# Altium footprint library USB_COM_V1.0.PcbLib: 13 footprints
Each footprint in its own frame and in the unit in brackets; x right, y up, seen from the top. Pads: shape width x height; smd on the part's side, far side on the other; paste and mask are expansions set on the pad; w line width, h text height; cw(c..) or ccw(c..) is an arc to the next point about the centre after c.
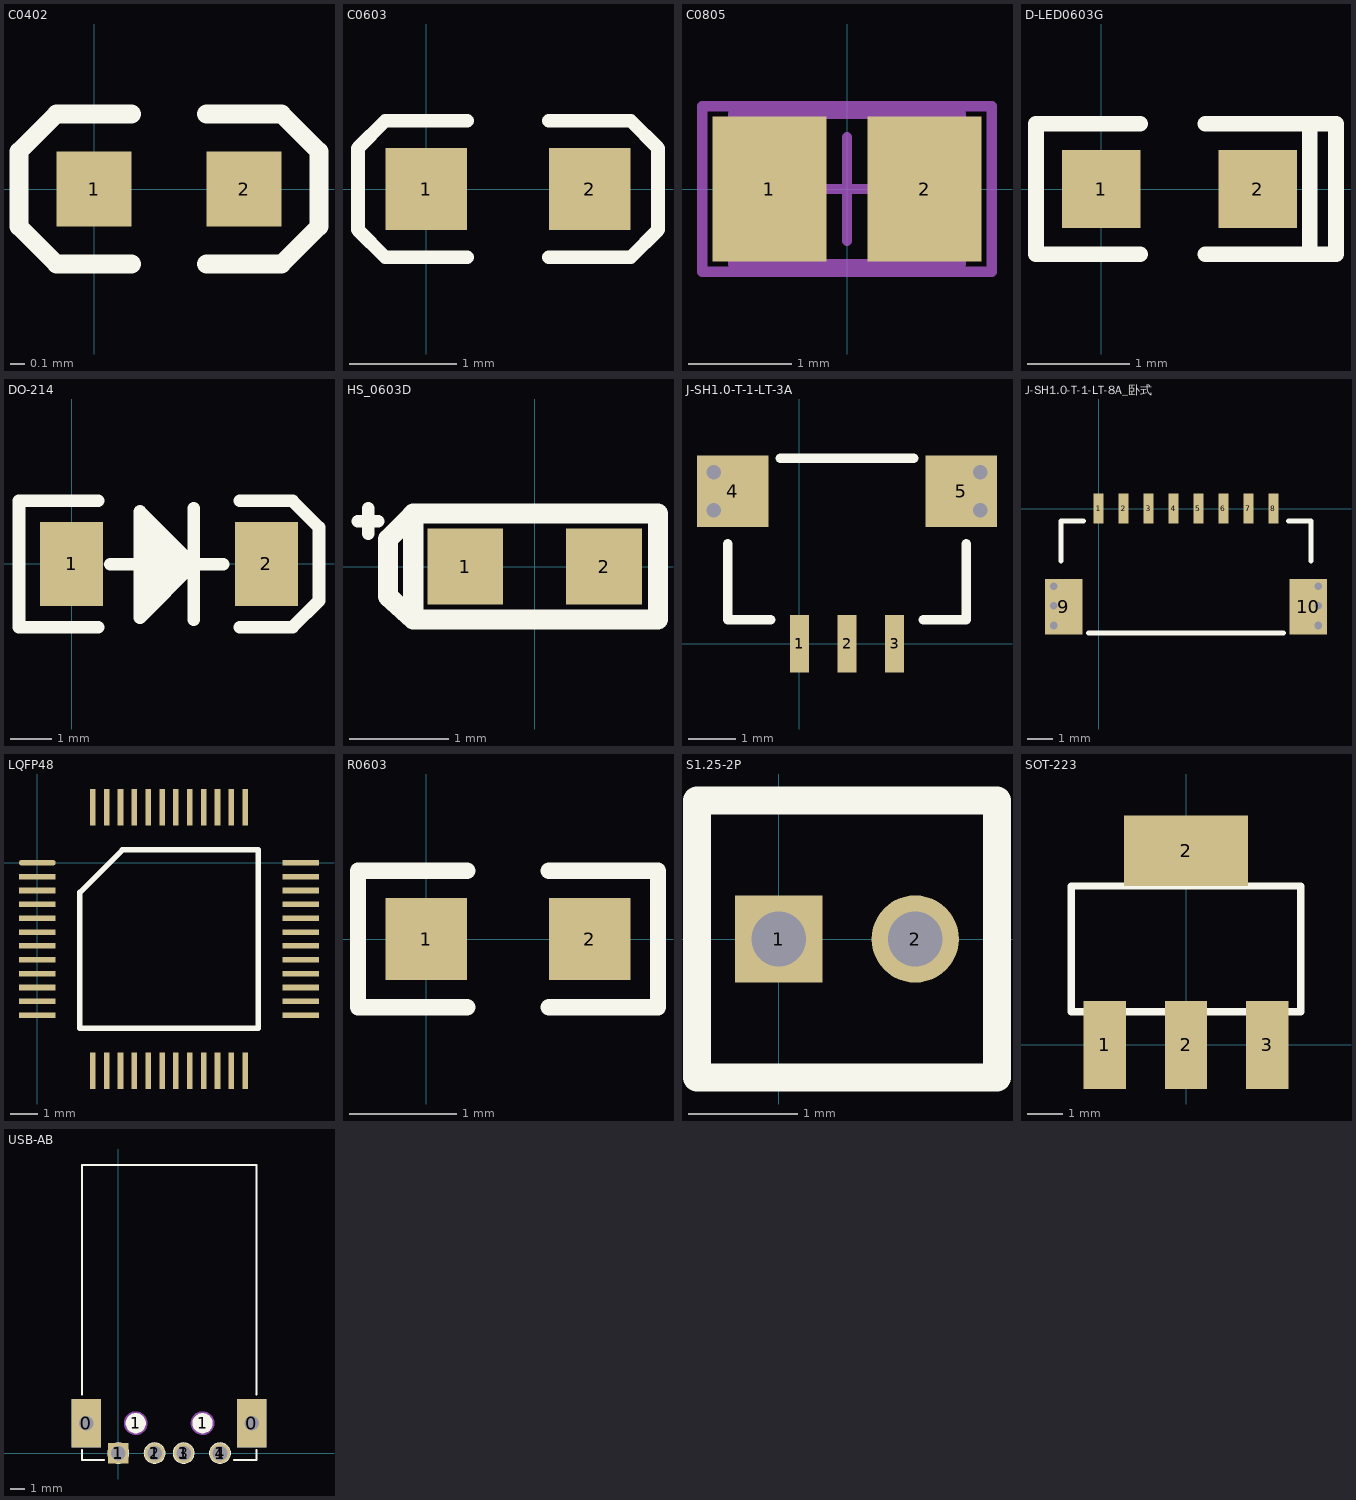
[diagram p0: the footprints below, top view; thin cyan lines are the x and y axes]

## C0402 [mil]
height 10
pads (2):
  rect 20x20 smd: 1(0,0) 2(40,0)
Top Overlay:
  lines w5: 10,-20 -10,-20 -20,-10 -20,10 -10,20 10,20 ; 30,-20 50,-20 60,-10 60,-5 60,10 50,20 30,20
3D body "C0402.STEP": height 19.84, standoff 0.16, extent 0.32,-10 39.69,10.08

## C0603 [mil]
height 12
pads (2):
  rect 30x30 smd: 1(0,0) 2(60,0)
Top Overlay:
  lines w5: 15,-25 -15,-25 -25,-15 -25,15 -15,25 15,25 ; 45,-25 75,-25 85,-15 85,15 75,25 45,25
3D body "C0603.STEP": height 11.89, standoff 0, extent -1.5,-15.5 61.5,16

## C0805 [mm] "Chip Capacitor, Body 2.0x1.3mm, IPC High Density"
height 1.4
pads (2):
  rect 1.1x1.4 smd: 1(-0.75,0) 2(0.75,0)
Mechanical 13:
  lines w0.1: -1.1,-0.725 -1.1,0.725 1.1,0.725 1.1,-0.725 -1.1,-0.725
Mechanical 15:
  lines w0.1: -0.5,0 0.5,0 ; 0,-0.5 0,0.5 ; -1.4,-0.8 -1.4,0.8 1.4,0.8 1.4,-0.8 -1.4,-0.8
3D body: height 1.4, standoff 0, extent -1.1,-0.725 1.1,0.725

## D-LED0603G [mil]
height 39.37
pads (2):
  rect 30x30 smd: 1(0,0) 2(60,0)
Top Overlay:
  lines w6: 15,-25 -25,-25 -25,25 15,25 ; 40,-25 90,-25 90,25 40,25 ; 80,-25 80,25
3D body "LED_0603_GREEN.STEP": height 23.62, standoff 0, extent -1.89,-16.5 61.89,15

## DO-214 [mil]
height 267.72
pads (2):
  rect 60x80 smd: 1(0,0) 2(185,0)
Top Overlay:
  region: 64.92,-25.05 91,-25.05 91,22.87 64.92,22.87
  lines w12: 25,-60 -50,-60 -50,60 25,60 ; 36.92,-0.13 143.92,-0.13 ; 64.92,33.87 100.29,-1.51 66.66,-35.13 ; 115.92,-53.13 115.92,52.87 ; 160,-60 209.92,-60 235,-34.92 235,34.87 209.87,60 160,60 ; 64.92,-51.13 115.92,-0.13 115.92,-1.13 64.92,49.87 64.92,-51.13

## HS_0603D [mil]
height 100
pads (2):
  rect 30x30 smd: 1(-27.5,0) 2(27.5,0)
Top Overlay:
  lines w5: -70,18 -62,18 ; -66,13 -66,23
  lines w8: -49,20 -58.12,10.88 -58.12,-11.87 -48.12,-21 ; -48.12,20 -48.12,-21 ; -48.12,21 48.88,21 48.88,-21 -48.12,-21

## J-SH1.0-T-1-LT-3A [mm]
pads (5):
  rect 0.4x1.2 smd: 1(0,0) 2(1,0) 3(2,0)
  rect 1.5x1.5 smd: 4(-1.4,3.2) 5(3.4,3.2)
via 3.8,2.8 diameter 0.508 hole 0.305
via 3.8,3.6 diameter 0.508 hole 0.305
via -1.8,2.8 diameter 0.508 hole 0.305
via -1.8,3.6 diameter 0.508 hole 0.305
Top Overlay:
  lines w0.2: -1.5,2.1 -1.5,0.5 -0.6,0.5 ; -0.4,3.9 2.4,3.9 ; 2.6,0.5 3.5,0.5 3.5,2.1

## J-SH1.0-T-1-LT-8A_卧式 [mm]
pads (10):
  rect 0.4x1.2 smd: 1(0,0) 2(1,0) 3(2,0) 4(3,0) 5(4,0) 6(5,0) 7(6,0) 8(7,0)
  rect 1.5x2.22 smd: 9(-1.4,-3.92) 10(8.4,-3.92)
via 8.8,-3.1 diameter 0.508 hole 0.305
via -1.8,-3.1 diameter 0.508 hole 0.305
via -1.8,-4.68 diameter 0.508 hole 0.305
via -1.8,-3.88 diameter 0.508 hole 0.305
via 8.8,-4.68 diameter 0.508 hole 0.305
via 8.8,-3.88 diameter 0.508 hole 0.305
Top Overlay:
  lines w0.2: -1.5,-2.1 -1.5,-0.5 -0.6,-0.5 ; -0.4,-4.98 7.4,-4.98 ; 7.6,-0.5 8.5,-0.5 8.5,-2.1

## LQFP48 [mm]
pads (48):
  oval 1.321x0.2 smd: 1(0,0)
  rect 1.321x0.2 smd: 2(0,-0.5) 3(0,-1) 4(0,-1.5) 5(0,-2) 6(0,-2.5) 7(0,-3) 8(0,-3.5) 9(0,-4) 10(0,-4.5) 11(0,-5) 12(0,-5.5) 25(9.5,-5.5) 26(9.5,-5) 27(9.5,-4.5) 28(9.5,-4) 29(9.5,-3.5) 30(9.5,-3) 31(9.5,-2.5) 32(9.5,-2) 33(9.5,-1.5) 34(9.5,-1) 35(9.5,-0.5) 36(9.5,0)
  rect 0.2x1.321 smd: 13(2,-7.5) 14(2.5,-7.5) 15(3,-7.5) 16(3.5,-7.5) 17(4,-7.5) 18(4.5,-7.5) 19(5,-7.5) 20(5.5,-7.5) 21(6,-7.5) 22(6.5,-7.5) 23(7,-7.5) 24(7.5,-7.5) 37(7.5,2) 38(7,2) 39(6.5,2) 40(6,2) 41(5.5,2) 42(5,2) 43(4.5,2) 44(4,2) 45(3.5,2) 46(3,2) 47(2.5,2) 48(2,2)
Top Overlay:
  lines w0.2: 1.535,-5.965 7.965,-5.965 7.965,0.465 3.07,0.465 1.535,-1.07 1.535,-5.965

## R0603 [mil]
height 12
pads (2):
  rect 30x30 smd: 1(0,0) 2(60,0)
Top Overlay:
  lines w6: 15,-25 -25,-25 -25,25 15,25 ; 45,-25 85,-25 85,25 45,25
3D body "R0603.STEP": height 17.72, standoff 0, extent -0.5,-16 62.5,15.5

## S1.25-2P [mm]
pads (2):
  rect 0.8x0.8 hole 0.5: 1(0,0)
  round 0.8 hole 0.5: 2(1.25,0)
Top Overlay:
  lines w0.254: -0.75,-1.27 2,-1.27 2,1.27 -0.75,1.27 -0.75,-1.27
3D body: height 8, standoff -2, extent -0.406,-0.406 0.39,0.392

## SOT-223 [mm]
pads (4):
  rect 1.2x2.5 smd: 1(-2.3,0) 2(0,0) 3(2.3,0)
  rect 3.5x2 smd: 2(0,5.5)
Top Overlay:
  lines w0.203: -3.25,0.94 3.25,0.94 3.25,4.5 -3.25,4.5 -3.25,0.94

## USB-AB [mm]
pads (42):
  rect 2x3.3 hole 1 square: 0(-2.199,2.06) 0(9.18,2.06)
  round 0.127 on Mech4: 1(-2.59,1.32) 1(-2.59,1.32) 1(-2.59,2.8) 1(-2.59,2.8) 1(-2.5,-0.47) 1(-2.5,-0.47) 1(-2.5,0.23) 1(-2.5,4.03) 1(-2.5,19.83) 1(-2.5,19.83) 1(-1.79,1.32) 1(-1.79,1.32) 1(-1.79,2.8) 1(-1.79,2.8) 1(-0.973,-0.47) 1(7.969,-0.47) 1(8.79,1.32) 1(8.79,1.32) 1(8.79,2.8) 1(8.79,2.8) 1(9.5,-0.47) 1(9.5,-0.47) 1(9.5,0.23) 1(9.5,4.03) 1(9.5,19.83) 1(9.5,19.83) 1(9.59,1.32) 1(9.59,1.32) 1(9.59,2.8) 1(9.59,2.8)
  rect 1.397x1.397 hole 1: 1(0,0)
  round 1.5 on Top Overlay: 1(0,0) 1(2.5,0) 1(4.5,0) 1(7,0)
  round 1.4 on Top Overlay: 1(1.2,2.06) 1(5.8,2.06)
  round 1.397 hole 1: 2(2.5,0) 3(4.5,0) 4(7,0)
Top Overlay:
  region: -3.19,3.71 -1.19,3.71 -1.19,0.41 -3.19,0.41
  region: 8.19,3.71 10.19,3.71 10.19,0.41 8.19,0.41
  lines w0.127: -2.5,0.23 -2.5,-0.47 -0.973,-0.47 ; -2.5,4.03 -2.5,19.83 9.5,19.83 9.5,4.03 ; 7.969,-0.47 9.5,-0.47 9.5,0.23
Mechanical 1:
  circle w0.254: c1.2,2.06 r0.692
  circle w0.254: c5.8,2.06 r0.692
  lines w0.127: -2.59,1.32 ccw(c-2.19,1.32) -1.79,1.32 -1.79,2.8 ccw(c-2.19,2.8) -2.59,2.8 -2.59,1.32 ; 8.79,1.32 ccw(c9.19,1.32) 9.59,1.32 9.59,2.8 ccw(c9.19,2.8) 8.79,2.8 8.79,1.32